# EAGLE library part USB-UART (library Ipfcz)
CONN HEADER VERT 6POS 2.54MM Manufacturer's datasheet <https://katalog.we-online.de/em/datasheet/6130xx11121.pdf>
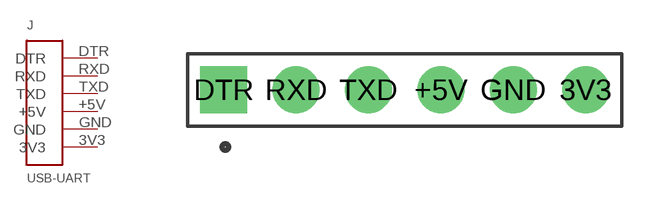
[diagram p3: symbol with the pads of USB-UART; footprint USB-UART]

Designator prefix J

## USB-UART (CREATED_BY: PCBLayout.com; DIGI_KEY_PART_NUMBER: 732-5319-ND; MANUFACTURER: Wurth Electronics Inc.; MPN: 61300611121)  [USB-UART]
3V3  3V3  pwr
+5V  +5V  pwr
DTR  DTR
GND  GND  pwr
RXD  RXD  in
TXD  TXD  out

## Footprint USB-UART (pad centres in mm)
drill 1.1: 3V3 6.35,0; +5V 1.27,0; GND 3.81,0; RXD -3.81,0; TXD -1.27,0
drill 1.1 square: DTR -6.35,0